# Altium footprint library PcbLib1.PcbLib: 3 footprints
Each footprint in its own frame and in the unit in brackets; x right, y up, seen from the top. Pads: shape width x height; smd on the part's side, far side on the other; paste and mask are expansions set on the pad; w line width, h text height; cw(c..) or ccw(c..) is an arc to the next point about the centre after c.
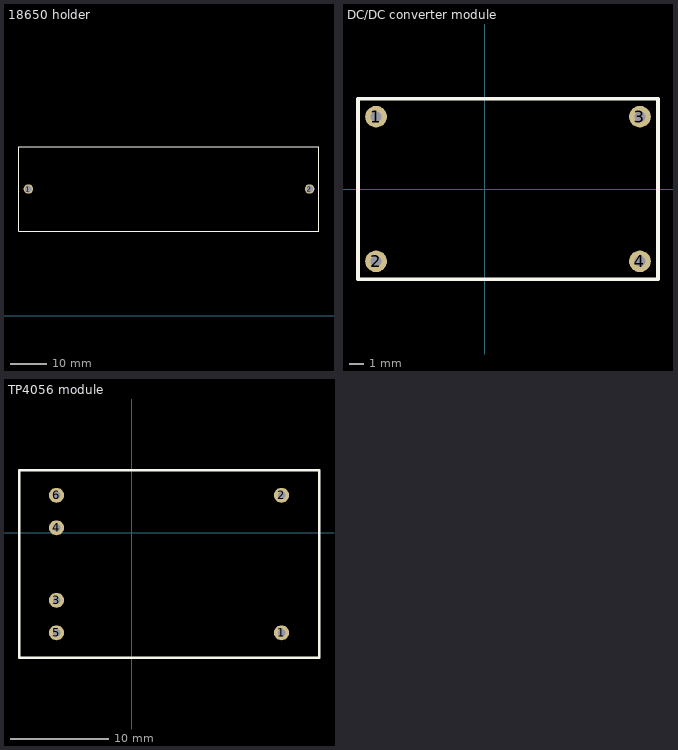
[diagram p0: the footprints below, top view; thin cyan lines are the x and y axes]

## 18650 holder [mil]
pads (2):
  round 100 hole 70: 1(-5150,1350) 2(-2150,1350)
Top Overlay:
  lines w10: -5250,900 -5250,1800 -2050,1800 -2050,900 -5250,900

## DC/DC converter module [mil]
pads (4):
  round 60 hole 30: 1(-300,200) 2(-300,-200) 3(430,200) 4(430,-200)
Top Overlay:
  lines w10: -350,-250 480,-250 480,250 -350,250 -350,-250

## TP4056 module [mil]
pads (6):
  round 60 hole 30: 1(600,-400) 2(600,150) 3(-300,-270) 4(-300,20) 5(-300,-400) 6(-300,150)
Top Overlay:
  lines w10: -450,-500 750,-500 750,250 -450,250 -450,-500